# Altium schematic symbol library EMPCB.SMAFSTJ.B.HT.SchLib: 1 symbol
Pins are listed as number, name and electrical type; pins without a type are passive.

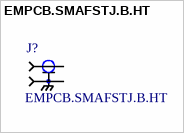
[diagram p0: symbol EMPCB.SMAFSTJ.B.HT]

## EMPCB.SMAFSTJ.B.HT
designator J?
SMA Connector Jack, Female Socket 50Ohm Board Edge, End Launch Solder; MF: Taoglas Limited; Digi-Key_Purchase_URL: https://www.digikey.com/product-detail/en/taoglas-limited/EMPCB.SMAFSTJ.B.HT/931-1175-ND/3522337?utm_source=snapeda&utm_medium=aggregator&utm_campaign=symbol; SnapEDA_Link: https://www.snapeda.com/parts/EMPCB.SMAFSTJ.B.HT/Taoglas%20Limited/view-part/231078/?ref=snap; MP: EMPCB.SMAFSTJ.B.HT; Digi-Key_Part_Number: 931-1175-ND; Package: None; Value: *
footprint *TAOGLAS_EMPCB.SMAFSTJ.B.HT_EMPCB.SMAFSTJ.B.HT(Primary)
pins: 1, SH1 2, SH2 2, SH3 2, SH4 2